# Altium footprint library MORNTA1001AT5.PcbLib: 1 footprints
Each footprint in its own frame and in the unit in brackets; x right, y up, seen from the top. Pads: shape width x height; smd on the part's side, far side on the other; paste and mask are expansions set on the pad; w line width, h text height; cw(c..) or ccw(c..) is an arc to the next point about the centre after c.
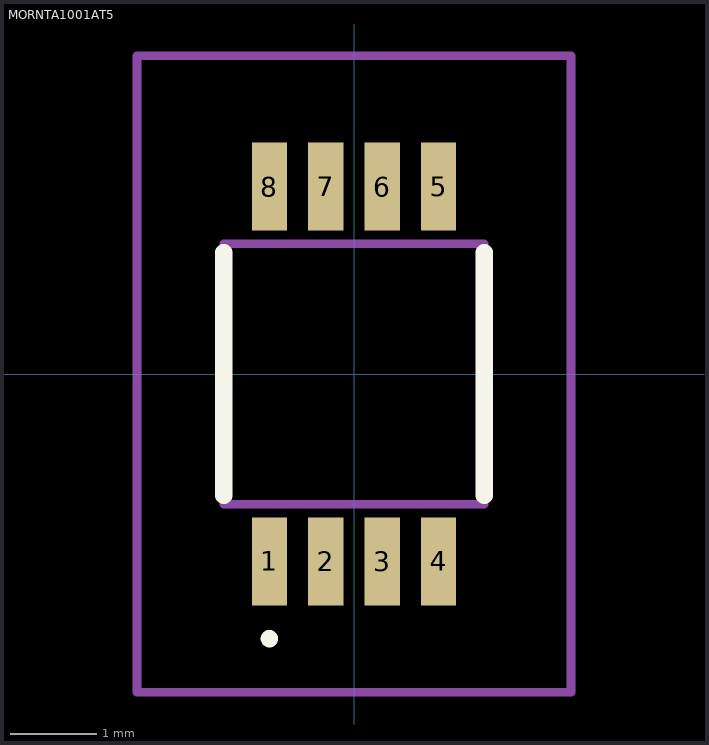
[diagram p0: the footprint, top view; thin cyan lines are the x and y axes]

## MORNTA1001AT5 [mil]
pads (8):
  rect 15.98x40 smd: 1(-38.39,-85) 2(-12.8,-85) 3(12.8,-85) 4(38.39,-85) 5(38.39,85) 6(12.8,85) 7(-12.8,85) 8(-38.39,85)
Top Overlay:
  lines w3.94: -38.39,-122.05 -38.39,-122.05 ; -38.39,-122.05 ccw(c-38.39,-120.08) -38.39,-118.11 ; -38.39,-122.05 cw(c-38.39,-120.08) -38.39,-118.11 ; -38.39,-118.11 -38.39,-118.11
  lines w7.87: -59.06,-55.12 -59.06,55.12 ; 59.06,-55.12 59.06,55.12
Mechanical 15:
  lines w3.94: -59.06,-59.06 59.06,-59.06 59.06,59.06 -59.06,59.06 -59.06,-59.06
Mechanical 20:
  lines w3.94: -98.43,-144.37 98.43,-144.37 98.43,144.37 -98.43,144.37 -98.43,-144.37